# Altium footprint library B4B-PH-K.PcbLib: 1 footprints
Each footprint in its own frame and in the unit in brackets; x right, y up, seen from the top. Pads: shape width x height; smd on the part's side, far side on the other; paste and mask are expansions set on the pad; w line width, h text height; cw(c..) or ccw(c..) is an arc to the next point about the centre after c.
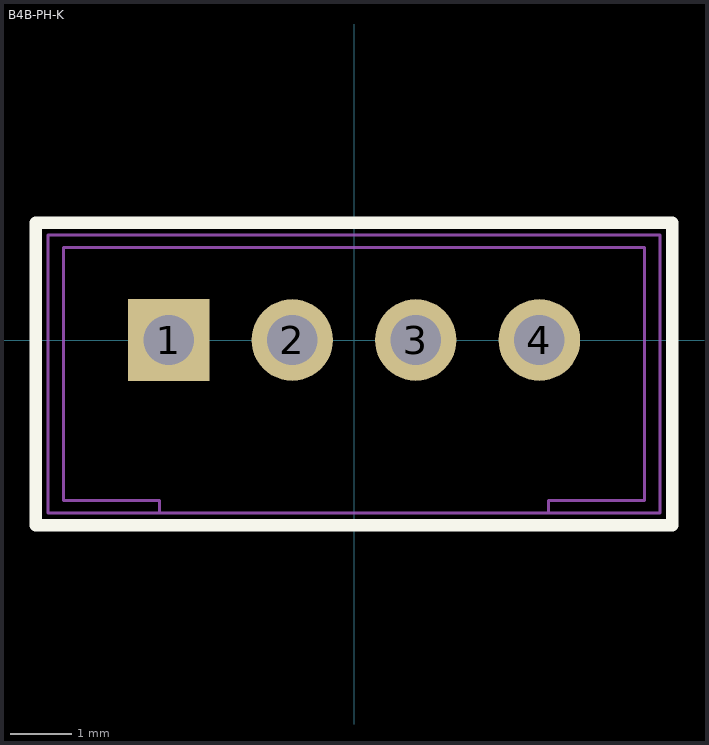
[diagram p0: the footprint, top view; thin cyan lines are the x and y axes]

## B4B-PH-K [mil]
pads (4):
  rect 52x52 hole 32: 1(-118.11,0)
  round 52 hole 32: 2(-39.37,0) 3(39.37,0) 4(118.11,0)
Top Overlay:
  lines w8: -202.76,-118.11 202.76,-118.11 202.76,74.8 -202.76,74.8 -202.76,-118.11
Mechanical 13:
  lines w2: -124.02,-110.24 124.02,-110.24 ; -124.02,-110.24 -194.88,-110.24 -194.88,66.93 194.88,66.93 194.88,-110.24 124.02,-110.24 ; -124.02,-110.24 -124.02,-102.36 -185.04,-102.36 -185.04,59.06 185.04,59.06 185.04,-102.36 124.02,-102.36 124.02,-110.24
  text ">LABEL" at -195,-175 h60
3D body "step_temp.STEP": height 236.22, standoff -134.7, extent -194.88,-110.24 194.88,66.93